# EAGLE library part OPA4197ID (library OPA4197ID)
36-V, Precision, Rail-to-Rail Input Output, Low Offset Voltage Op Amp Source: Datasheet <http://www.ti.com/lit/gpn/OPA4197>
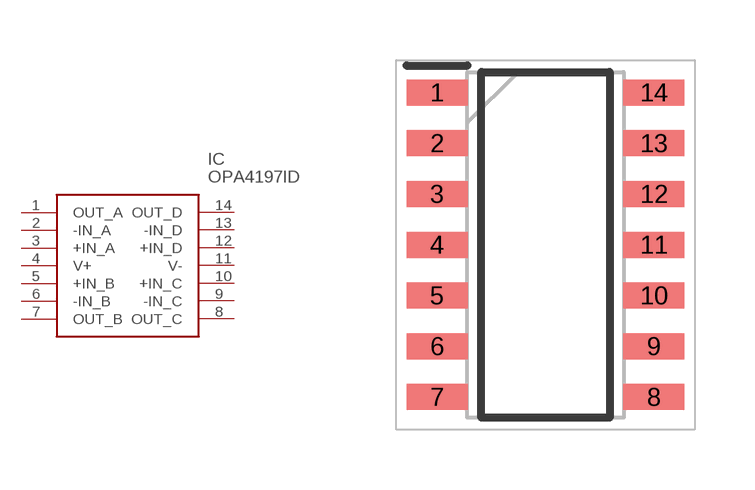
[diagram p0: symbol with the pads of SOIC127P600X175-14N; footprint SOIC127P600X175-14N]

Designator prefix IC

## OPA4197ID (Description: 36-V, Precision, Rail-to-Rail Input Output, Low Offset Voltage Op Amp; Height: 1.75mm; Manufacturer_Name: Texas Instruments; Manufacturer_Part_Number: OPA4197ID; Mouser_Part_Number: 595-OPA4197ID; Mouser_Price-Stock: https://www.mouser.co.uk/ProductDetail/Texas-Instruments/OPA4197ID?qs=LuYMPh7GGMRrQsevs5FGag%3D%3D)  [SOIC127P600X175-14N]
1  OUT_A
2  -IN_A
3  +IN_A
4  V+
5  +IN_B
6  -IN_B
7  OUT_B
8  OUT_C
9  -IN_C
10  +IN_C
11  V-
12  +IN_D
13  -IN_D
14  OUT_D

## Footprint SOIC127P600X175-14N (pad centres in mm)
D (-R-PDSO-G14)
smd 1.525 x 0.65: 1 -2.712,3.81; 2 -2.712,2.54; 3 -2.712,1.27; 4 -2.712,0; 5 -2.712,-1.27; 6 -2.712,-2.54; 7 -2.712,-3.81; 8 2.712,-3.81; 9 2.712,-2.54; 10 2.712,-1.27; 11 2.712,0; 12 2.712,1.27; 13 2.712,2.54; 14 2.712,3.81